# Altium integrated library Resistors$.IntLib: 248 symbols (part 2 of 3)
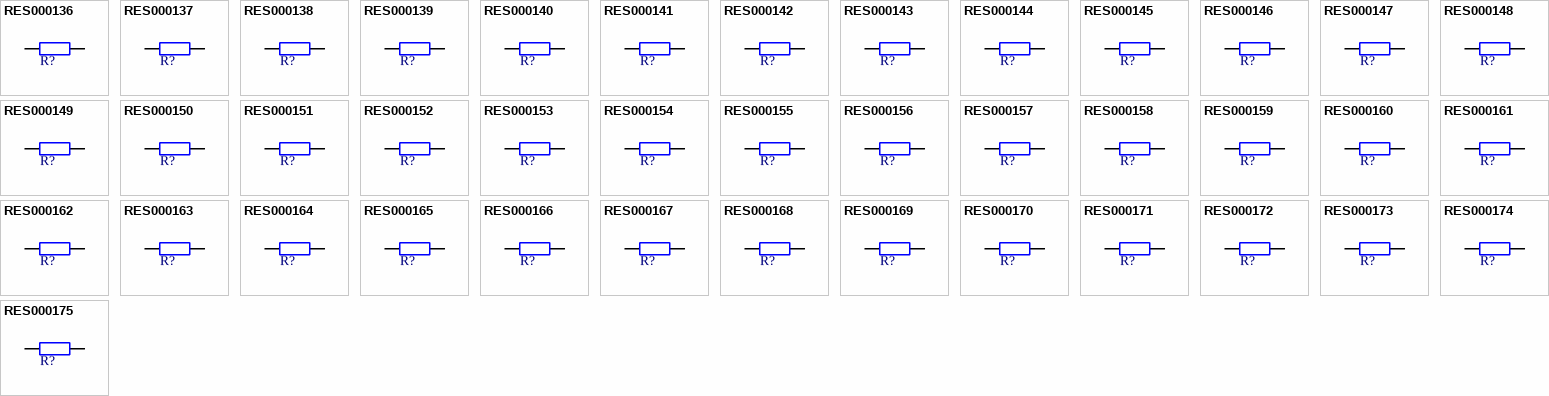
[diagram p7: symbols RES000136 to RES000175]

## RES000141
designator R?, comment 1K8  (value not drawn)
RES CER 1K8 1608 SM; Manufactuer: Yageo; Manufacturer-PN: RC0603FR-071K8L; UoA Stock#: RES000141; Assembly Method: Surface Mount; Voltage/Current: 1/10W; Item Type: Item; Path: ece/ts/Lists/Stock Inventory; Value: 1K8; Size/Package: 1608 (0603); Datasheet Link: http://share.engineering.auckland.ac.nz/ece/ts/Student%20Documents/Yageo-Resistors.pdf; Supplier1: Digikey; Supplier1-PN: 311-1.80KHRTR-ND; Component Type: RES-1608-1K8; Category: Resistor; Status: Active
footprint ECE-RESC1608-0603SM
pins: 1, 2

## RES000142
designator R?, comment 2K2  (value not drawn)
RES CER 2K2 1608 SM; Manufactuer: Yageo; Manufacturer-PN: RC0603FR-072K2L; UoA Stock#: RES000142; Assembly Method: Surface Mount; Voltage/Current: 1/10W; Item Type: Item; Path: ece/ts/Lists/Stock Inventory; Value: 2K2; Size/Package: 1608 (0603); Datasheet Link: http://share.engineering.auckland.ac.nz/ece/ts/Student%20Documents/Yageo-Resistors.pdf; Supplier1: Digikey; Supplier1-PN: 311-2.20KHRTR-ND; Component Type: RES-1608-2K2; Category: Resistor; Status: Active
footprint ECE-RESC1608-0603SM
pins: 1, 2

## RES000143
designator R?, comment 2K7  (value not drawn)
RES CER 2K7 1608 SM; Manufactuer: Yageo; Manufacturer-PN: RC0603FR-072K7L; UoA Stock#: RES000143; Assembly Method: Surface Mount; Voltage/Current: 1/10W; Item Type: Item; Path: ece/ts/Lists/Stock Inventory; Value: 2K7; Size/Package: 1608 (0603); Datasheet Link: http://share.engineering.auckland.ac.nz/ece/ts/Student%20Documents/Yageo-Resistors.pdf; Supplier1: Digikey; Supplier1-PN: 311-2.70KHRTR-ND; Component Type: RES-1608-2K7; Category: Resistor; Status: Active
footprint ECE-RESC1608-0603SM
pins: 1, 2

## RES000144
designator R?, comment 3K3  (value not drawn)
RES CER 3K3 1608 SM; Manufactuer: Rohm; Manufacturer-PN: MCR03ERTF3301; UoA Stock#: RES000144; Assembly Method: Surface Mount; Voltage/Current: 1/10W; Item Type: Item; Path: ece/ts/Lists/Stock Inventory; Value: 3K3; Size/Package: 1608 (0603); Datasheet Link: http://share.engineering.auckland.ac.nz/ece/ts/Student%20Documents/Rohm-resistors.pdf; Supplier1: Digikey; Supplier1-PN: RHM3.30KCFTR-ND; Component Type: RES-1608-3K3; Category: Resistor; Status: Active
footprint ECE-RESC1608-0603SM
pins: 1, 2

## RES000145
designator R?, comment 3K9  (value not drawn)
RES CER 3K9 1608 SM; Manufactuer: Panasonic; Manufacturer-PN: ERJ-3EKF3901V; UoA Stock#: RES000145; Assembly Method: Surface Mount; Voltage/Current: 1/10W; Item Type: Item; Path: ece/ts/Lists/Stock Inventory; Value: 3K9; Size/Package: 1608 (0603); Datasheet Link: http://share.engineering.auckland.ac.nz/ece/ts/Student%20Documents/Panasonic-Resistors.pdf; Supplier1: Digikey; Supplier1-PN: P3.90KHTR-ND; Component Type: RES-1608-3K9; Category: Resistor; Status: Active
footprint ECE-RESC1608-0603SM
pins: 1, 2

## RES000146
designator R?, comment 4K7  (value not drawn)
RES CER 4K7 1608 SM; Manufactuer: Yageo; Manufacturer-PN: RC0603FR-074K7L; UoA Stock#: RES000146; Assembly Method: Surface Mount; Voltage/Current: 1/10W; Item Type: Item; Path: ece/ts/Lists/Stock Inventory; Value: 4K7; Size/Package: 1608 (0603); Datasheet Link: http://share.engineering.auckland.ac.nz/ece/ts/Student%20Documents/Yageo-Resistors.pdf; Supplier1: Digikey; Supplier1-PN: 311-4.70KHRTR-ND; Component Type: RES-1608-4K7; Category: Resistor; Status: Active
footprint ECE-RESC1608-0603SM
pins: 1, 2

## RES000147
designator R?, comment 5K6  (value not drawn)
RES CER 5K6 1608 SM; Manufactuer: Yageo; Manufacturer-PN: RC0603FR-075K6L; UoA Stock#: RES000147; Assembly Method: Surface Mount; Voltage/Current: 1/10W; Item Type: Item; Path: ece/ts/Lists/Stock Inventory; Value: 5K6; Size/Package: 1608 (0603); Datasheet Link: http://share.engineering.auckland.ac.nz/ece/ts/Student%20Documents/Yageo-Resistors.pdf; Supplier1: Digikey; Supplier1-PN: 311-5.60KHRTR-ND; Component Type: RES-1608-5K6; Category: Resistor; Status: Active
footprint ECE-RESC1608-0603SM
pins: 1, 2

## RES000148
designator R?, comment 6K8  (value not drawn)
RES CER 6K8 1608 SM; Manufactuer: Rohm; Manufacturer-PN: MCR03ERTF6801; UoA Stock#: RES000148; Assembly Method: Surface Mount; Voltage/Current: 1/10W; Item Type: Item; Path: ece/ts/Lists/Stock Inventory; Value: 6K8; Size/Package: 1608 (0603); Datasheet Link: http://share.engineering.auckland.ac.nz/ece/ts/Student%20Documents/Rohm-resistors.pdf; Supplier1: Digikey; Supplier1-PN: RHM6.8KCFTR-ND; Component Type: RES-1608-6K8; Category: Resistor; Status: Active
footprint ECE-RESC1608-0603SM
pins: 1, 2

## RES000149
designator R?, comment 8K2  (value not drawn)
RES CER 8K2 1608 SM; Manufactuer: Panasonic; Manufacturer-PN: ERJ-3EKF8201V; UoA Stock#: RES000149; Assembly Method: Surface Mount; Voltage/Current: 1/10W; Item Type: Item; Path: ece/ts/Lists/Stock Inventory; Value: 8K2; Size/Package: 1608 (0603); Datasheet Link: http://share.engineering.auckland.ac.nz/ece/ts/Student%20Documents/Panasonic-Resistors.pdf; Supplier1: Digikey; Supplier1-PN: P8.20KHTR-ND; Component Type: RES-1608-8K2; Category: Resistor; Status: Active
footprint ECE-RESC1608-0603SM
pins: 1, 2

## RES000150
designator R?, comment 10K  (value not drawn)
RES CER 10K 1608 SM; Manufactuer: Rohm; Manufacturer-PN: MCR03ERTF1002; UoA Stock#: RES000150; Assembly Method: Surface Mount; Voltage/Current: 1/10W; Item Type: Item; Path: ece/ts/Lists/Stock Inventory; Value: 10K; Size/Package: 1608 (0603); Datasheet Link: http://share.engineering.auckland.ac.nz/ece/ts/Student%20Documents/Rohm-resistors.pdf; Supplier1: Digikey; Supplier1-PN: RHM10.0KCFTR-ND; Component Type: RES-1608-10K; Category: Resistor; Status: Active
footprint ECE-RESC1608-0603SM
pins: 1, 2

## RES000151
designator R?, comment 12K  (value not drawn)
RES CER 12K 1608 SM; Manufactuer: Rohm; Manufacturer-PN: MCR03ERTF1202; UoA Stock#: RES000151; Assembly Method: Surface Mount; Voltage/Current: 1/10W; Item Type: Item; Path: ece/ts/Lists/Stock Inventory; Value: 12K; Size/Package: 1608 (0603); Datasheet Link: http://share.engineering.auckland.ac.nz/ece/ts/Student%20Documents/Rohm-resistors.pdf; Supplier1: Digikey; Supplier1-PN: RHM12.0KCLTR-ND; Component Type: RES-1608-12K; Category: Resistor; Status: Active
footprint ECE-RESC1608-0603SM
pins: 1, 2

## RES000152
designator R?, comment 15K  (value not drawn)
RES CER 15K 1608 SM; Manufactuer: Yageo; Manufacturer-PN: RC0603FR-0715KL; UoA Stock#: RES000152; Assembly Method: Surface Mount; Voltage/Current: 1/10W; Item Type: Item; Path: ece/ts/Lists/Stock Inventory; Value: 15K; Size/Package: 1608 (0603); Datasheet Link: http://share.engineering.auckland.ac.nz/ece/ts/Student%20Documents/Yageo-Resistors.pdf; Supplier1: Digikey; Supplier1-PN: 311-15.0KHRTR-ND; Component Type: RES-1608-15K; Category: Resistor; Status: Active
footprint ECE-RESC1608-0603SM
pins: 1, 2

## RES000153
designator R?, comment 18K  (value not drawn)
RES CER 18K 1608 SM; Manufactuer: Yageo; Manufacturer-PN: RC0603FR-0718KL; UoA Stock#: RES000153; Assembly Method: Surface Mount; Voltage/Current: 1/10W; Item Type: Item; Path: ece/ts/Lists/Stock Inventory; Value: 18K; Size/Package: 1608 (0603); Datasheet Link: http://share.engineering.auckland.ac.nz/ece/ts/Student%20Documents/Yageo-Resistors.pdf; Supplier1: Digikey; Supplier1-PN: 311-18.0KHRTR-ND; Component Type: RES-1608-18K; Category: Resistor; Status: Active
footprint ECE-RESC1608-0603SM
pins: 1, 2

## RES000154
designator R?, comment 22K  (value not drawn)
RES CER 22K 1608 SM; Manufactuer: Yageo; Manufacturer-PN: RC0603FR-0722KL; UoA Stock#: RES000154; Assembly Method: Surface Mount; Voltage/Current: 1/10W; Item Type: Item; Path: ece/ts/Lists/Stock Inventory; Value: 22K; Size/Package: 1608 (0603); Datasheet Link: http://share.engineering.auckland.ac.nz/ece/ts/Student%20Documents/Yageo-Resistors.pdf; Supplier1: Digikey; Supplier1-PN: 311-22.0KHRTR-ND; Component Type: RES-1608-22K; Category: Resistor; Status: Active
footprint ECE-RESC1608-0603SM
pins: 1, 2

## RES000155
designator R?, comment 27K  (value not drawn)
RES CER 27K 1608 SM; Manufactuer: Samsung; Manufacturer-PN: RC1608F273CS; UoA Stock#: RES000155; Assembly Method: Surface Mount; Voltage/Current: 1/10W; Item Type: Item; Path: ece/ts/Lists/Stock Inventory; Value: 27K; Size/Package: 1608 (0603); Datasheet Link: http://share.engineering.auckland.ac.nz/ece/ts/Student%20Documents/Samsung-CHIP_RESISTOR_150112_1.pdf; Supplier1: Digikey; Supplier1-PN: 1276-4781-2-ND; Component Type: RES-1608-27K; Category: Resistor; Status: Active
footprint ECE-RESC1608-0603SM
pins: 1, 2

## RES000156
designator R?, comment 33K  (value not drawn)
RES CER 33K 1608 SM; Manufactuer: Yageo; Manufacturer-PN: RC0603FR-0733KL; UoA Stock#: RES000156; Assembly Method: Surface Mount; Voltage/Current: 1/10W; Item Type: Item; Path: ece/ts/Lists/Stock Inventory; Value: 33K; Size/Package: 1608 (0603); Datasheet Link: http://share.engineering.auckland.ac.nz/ece/ts/Student%20Documents/Yageo-Resistors.pdf; Supplier1: Digikey; Supplier1-PN: 311-33.0KHRTR-ND; Component Type: RES-1608-33K; Category: Resistor; Status: Active
footprint ECE-RESC1608-0603SM
pins: 1, 2

## RES000157
designator R?, comment 39K  (value not drawn)
RES CER 39K 1608 SM; Manufactuer: Yageo; Manufacturer-PN: RC0603FR-0739KL; UoA Stock#: RES000157; Assembly Method: Surface Mount; Voltage/Current: 1/10W; Item Type: Item; Path: ece/ts/Lists/Stock Inventory; Value: 39K; Size/Package: 1608 (0603); Datasheet Link: http://share.engineering.auckland.ac.nz/ece/ts/Student%20Documents/Yageo-Resistors.pdf; Supplier1: Digikey; Supplier1-PN: 311-39.0KHRTR-ND; Component Type: RES-1608-39K; Category: Resistor; Status: Active
footprint ECE-RESC1608-0603SM
pins: 1, 2

## RES000158
designator R?, comment 47K  (value not drawn)
RES CER 47K 1608 SM; Manufactuer: Yageo; Manufacturer-PN: RC0603FR-0747KL; UoA Stock#: RES000158; Assembly Method: Surface Mount; Voltage/Current: 1/10W; Item Type: Item; Path: ece/ts/Lists/Stock Inventory; Value: 47K; Size/Package: 1608 (0603); Datasheet Link: http://share.engineering.auckland.ac.nz/ece/ts/Student%20Documents/Yageo-Resistors.pdf; Supplier1: Digikey; Supplier1-PN: 311-47.0KHRTR-ND; Component Type: RES-1608-47K; Category: Resistor; Status: Active
footprint ECE-RESC1608-0603SM
pins: 1, 2

## RES000159
designator R?, comment 56K  (value not drawn)
RES CER 56K 1608 SM; Manufactuer: Panasonic; Manufacturer-PN: ERJ-3EKF5602V; UoA Stock#: RES000159; Assembly Method: Surface Mount; Voltage/Current: 1/10W; Item Type: Item; Path: ece/ts/Lists/Stock Inventory; Value: 56K; Size/Package: 1608 (0603); Datasheet Link: http://share.engineering.auckland.ac.nz/ece/ts/Student%20Documents/Panasonic-Resistors.pdf; Supplier1: Digikey; Supplier1-PN: P56.0KHTR-ND; Component Type: RES-1608-56K; Category: Resistor; Status: Active
footprint ECE-RESC1608-0603SM
pins: 1, 2

## RES000160
designator R?, comment 68K  (value not drawn)
RES CER 68K 1608 SM; Manufactuer: Yageo; Manufacturer-PN: RC0603FR-0768KL; UoA Stock#: RES000160; Assembly Method: Surface Mount; Voltage/Current: 1/10W; Item Type: Item; Path: ece/ts/Lists/Stock Inventory; Value: 68K; Size/Package: 1608 (0603); Datasheet Link: http://share.engineering.auckland.ac.nz/ece/ts/Student%20Documents/Yageo-Resistors.pdf; Supplier1: Digikey; Supplier1-PN: 311-68.0KHRTR-ND; Component Type: RES-1608-68K; Category: Resistor; Status: Active
footprint ECE-RESC1608-0603SM
pins: 1, 2

## RES000161
designator R?, comment 82K  (value not drawn)
RES CER 82K 1608 SM; Manufactuer: Rohm; Manufacturer-PN: MCR03ERTF8202; UoA Stock#: RES000161; Assembly Method: Surface Mount; Voltage/Current: 1/10W; Item Type: Item; Path: ece/ts/Lists/Stock Inventory; Value: 82K; Size/Package: 1608 (0603); Datasheet Link: http://share.engineering.auckland.ac.nz/ece/ts/Student%20Documents/Rohm-resistors.pdf; Supplier1: Digikey; Supplier1-PN: RHM82KCFTR-ND; Component Type: RES-1608-82K; Category: Resistor; Status: Active
footprint ECE-RESC1608-0603SM
pins: 1, 2

## RES000162
designator R?, comment 100K  (value not drawn)
RES CER 100K 1608 SM; Manufactuer: Yageo; Manufacturer-PN: RC0603FR-07100KL; UoA Stock#: RES000162; Assembly Method: Surface Mount; Voltage/Current: 1/10W; Item Type: Item; Path: ece/ts/Lists/Stock Inventory; Value: 100K; Size/Package: 1608 (0603); Datasheet Link: http://share.engineering.auckland.ac.nz/ece/ts/Student%20Documents/Yageo-Resistors.pdf; Supplier1: Digikey; Supplier1-PN: 311-100KHRTR-ND; Component Type: RES-1608-100K; Category: Resistor; Status: Active
footprint ECE-RESC1608-0603SM
pins: 1, 2

## RES000163
designator R?, comment 120K  (value not drawn)
RES CER 120K 1608 SM; Manufactuer: Yageo; Manufacturer-PN: RC0603FR-07120KL; UoA Stock#: RES000163; Assembly Method: Surface Mount; Voltage/Current: 1/10W; Item Type: Item; Path: ece/ts/Lists/Stock Inventory; Value: 120K; Size/Package: 1608 (0603); Datasheet Link: http://share.engineering.auckland.ac.nz/ece/ts/Student%20Documents/Yageo-Resistors.pdf; Supplier1: Digikey; Supplier1-PN: 311-120KHRTR-ND; Component Type: RES-1608-120K; Category: Resistor; Status: Active
footprint ECE-RESC1608-0603SM
pins: 1, 2

## RES000164
designator R?, comment 150K  (value not drawn)
RES CER 150K 1608 SM; Manufactuer: Yageo; Manufacturer-PN: RC0603FR-07150KL; UoA Stock#: RES000164; Assembly Method: Surface Mount; Voltage/Current: 1/10W; Item Type: Item; Path: ece/ts/Lists/Stock Inventory; Value: 150K; Size/Package: 1608 (0603); Datasheet Link: http://share.engineering.auckland.ac.nz/ece/ts/Student%20Documents/Yageo-Resistors.pdf; Supplier1: Digikey; Supplier1-PN: 311-150KHRTR-ND; Component Type: RES-1608-150K; Category: Resistor; Status: Active
footprint ECE-RESC1608-0603SM
pins: 1, 2

## RES000165
designator R?, comment 180K  (value not drawn)
RES CER 180K 1608 SM; Manufactuer: Yageo; Manufacturer-PN: RC0603FR-07180KL; UoA Stock#: RES000165; Assembly Method: Surface Mount; Voltage/Current: 1/10W; Item Type: Item; Path: ece/ts/Lists/Stock Inventory; Value: 180K; Size/Package: 1608 (0603); Datasheet Link: http://share.engineering.auckland.ac.nz/ece/ts/Student%20Documents/Yageo-Resistors.pdf; Supplier1: Digikey; Supplier1-PN: 311-180KHRTR-ND; Component Type: RES-1608-180K; Category: Resistor; Status: Active
footprint ECE-RESC1608-0603SM
pins: 1, 2

## RES000166
designator R?, comment 220K  (value not drawn)
RES CER 220K 1608 SM; Manufactuer: Yageo; Manufacturer-PN: RC0603FR-07220KL; UoA Stock#: RES000166; Assembly Method: Surface Mount; Voltage/Current: 1/10W; Item Type: Item; Path: ece/ts/Lists/Stock Inventory; Value: 220K; Size/Package: 1608 (0603); Datasheet Link: http://share.engineering.auckland.ac.nz/ece/ts/Student%20Documents/Yageo-Resistors.pdf; Supplier1: Digikey; Supplier1-PN: 311-220KHRTR-ND; Component Type: RES-1608-220K; Category: Resistor; Status: Active
footprint ECE-RESC1608-0603SM
pins: 1, 2

## RES000167
designator R?, comment 270K  (value not drawn)
RES CER 270K 1608 SM; Manufactuer: Yageo; Manufacturer-PN: RC0603FR-07270KL; UoA Stock#: RES000167; Assembly Method: Surface Mount; Voltage/Current: 1/10W; Item Type: Item; Path: ece/ts/Lists/Stock Inventory; Value: 270K; Size/Package: 1608 (0603); Datasheet Link: http://share.engineering.auckland.ac.nz/ece/ts/Student%20Documents/Yageo-Resistors.pdf; Supplier1: Digikey; Supplier1-PN: 311-270KHRTR-ND; Component Type: RES-1608-270K; Category: Resistor; Status: Active
footprint ECE-RESC1608-0603SM
pins: 1, 2

## RES000168
designator R?, comment 330K  (value not drawn)
RES CER 330K 1608 SM; Manufactuer: Yageo; Manufacturer-PN: RC0603FR-07330KL; UoA Stock#: RES000168; Assembly Method: Surface Mount; Voltage/Current: 1/10W; Item Type: Item; Path: ece/ts/Lists/Stock Inventory; Value: 330K; Size/Package: 1608 (0603); Datasheet Link: http://share.engineering.auckland.ac.nz/ece/ts/Student%20Documents/Yageo-Resistors.pdf; Supplier1: Digikey; Supplier1-PN: 311-330KHRTR-ND; Component Type: RES-1608-330K; Category: Resistor; Status: Active
footprint ECE-RESC1608-0603SM
pins: 1, 2

## RES000169
designator R?, comment 390K  (value not drawn)
RES CER 390K 1608 SM; Manufactuer: Yageo; Manufacturer-PN: RC0603FR-07390KL; UoA Stock#: RES000169; Assembly Method: Surface Mount; Voltage/Current: 1/10W; Item Type: Item; Path: ece/ts/Lists/Stock Inventory; Value: 390K; Size/Package: 1608 (0603); Datasheet Link: http://share.engineering.auckland.ac.nz/ece/ts/Student%20Documents/Yageo-Resistors.pdf; Supplier1: Digikey; Supplier1-PN: 311-390KHRTR-ND; Component Type: RES-1608-390K; Category: Resistor; Status: Active
footprint ECE-RESC1608-0603SM
pins: 1, 2

## RES000170
designator R?, comment 470K  (value not drawn)
RES CER 470K 1608 SM; Manufactuer: Yageo; Manufacturer-PN: RC0603FR-07470KL; UoA Stock#: RES000170; Assembly Method: Surface Mount; Voltage/Current: 1/10W; Item Type: Item; Path: ece/ts/Lists/Stock Inventory; Value: 470K; Size/Package: 1608 (0603); Datasheet Link: http://share.engineering.auckland.ac.nz/ece/ts/Student%20Documents/Yageo-Resistors.pdf; Supplier1: Digikey; Supplier1-PN: 311-470KHRTR-ND; Component Type: RES-1608-470K; Category: Resistor; Status: Active
footprint ECE-RESC1608-0603SM
pins: 1, 2

## RES000171
designator R?, comment 560K  (value not drawn)
RES CER 560K 1608 SM; Manufactuer: Rohm; Manufacturer-PN: MCR03ERTF5603; UoA Stock#: RES000171; Assembly Method: Surface Mount; Voltage/Current: 1/10W; Item Type: Item; Path: ece/ts/Lists/Stock Inventory; Value: 560K; Size/Package: 1608 (0603); Datasheet Link: http://share.engineering.auckland.ac.nz/ece/ts/Student%20Documents/Rohm-resistors.pdf; Supplier1: Digikey; Supplier1-PN: RHM560KCLTR-ND; Component Type: RES-1608-560K; Category: Resistor; Status: Active
footprint ECE-RESC1608-0603SM
pins: 1, 2

## RES000172
designator R?, comment 680K  (value not drawn)
RES CER 680K 1608 SM; Manufactuer: Panasonic; Manufacturer-PN: ERJ-3EKF6803V; UoA Stock#: RES000172; Assembly Method: Surface Mount; Voltage/Current: 1/10W; Item Type: Item; Path: ece/ts/Lists/Stock Inventory; Value: 680K; Size/Package: 1608 (0603); Datasheet Link: http://share.engineering.auckland.ac.nz/ece/ts/Student%20Documents/Panasonic-Resistors.pdf; Supplier1: Digikey; Supplier1-PN: P680KHTR-ND; Component Type: RES-1608-680K; Category: Resistor; Status: Active
footprint ECE-RESC1608-0603SM
pins: 1, 2

## RES000173
designator R?, comment 820K  (value not drawn)
RES CER 820K 1608 SM; Manufactuer: Yageo; Manufacturer-PN: RC0603FR-07820KL; UoA Stock#: RES000173; Assembly Method: Surface Mount; Voltage/Current: 1/10W; Item Type: Item; Path: ece/ts/Lists/Stock Inventory; Value: 820K; Size/Package: 1608 (0603); Datasheet Link: http://share.engineering.auckland.ac.nz/ece/ts/Student%20Documents/Yageo-Resistors.pdf; Supplier1: Digikey; Supplier1-PN: 311-820KHRTR-ND; Component Type: RES-1608-820K; Category: Resistor; Status: Active
footprint ECE-RESC1608-0603SM
pins: 1, 2

## RES000174
designator R?, comment 1M  (value not drawn)
RES CER 1M 1608 SM; Manufactuer: Yageo; Manufacturer-PN: RC0603FR-071ML; UoA Stock#: RES000174; Assembly Method: Surface Mount; Voltage/Current: 1/10W; Item Type: Item; Path: ece/ts/Lists/Stock Inventory; Value: 1M; Size/Package: 1608 (0603); Datasheet Link: http://share.engineering.auckland.ac.nz/ece/ts/Student%20Documents/Yageo-Resistors.pdf; Supplier1: Digikey; Supplier1-PN: 311-1.00MHRTR-ND; Component Type: RES-1608-1M; Category: Resistor; Status: Active
footprint ECE-RESC1608-0603SM
pins: 1, 2

## RES000175
designator R?, comment 2M2  (value not drawn)
RES CER 2M2 1608 SM; Manufactuer: Panasonic; Manufacturer-PN: ERJ-3EKF2204V; UoA Stock#: RES000175; Assembly Method: Surface Mount; Voltage/Current: 1/10W; Item Type: Item; Path: ece/ts/Lists/Stock Inventory; Value: 2M2; Size/Package: 1608 (0603); Datasheet Link: http://share.engineering.auckland.ac.nz/ece/ts/Student%20Documents/Panasonic-Resistors.pdf; Supplier1: Digikey; Supplier1-PN: P2.20MHTR-ND; Component Type: RES-1608-2M2; Category: Resistor; Status: Active
footprint ECE-RESC1608-0603SM
pins: 1, 2

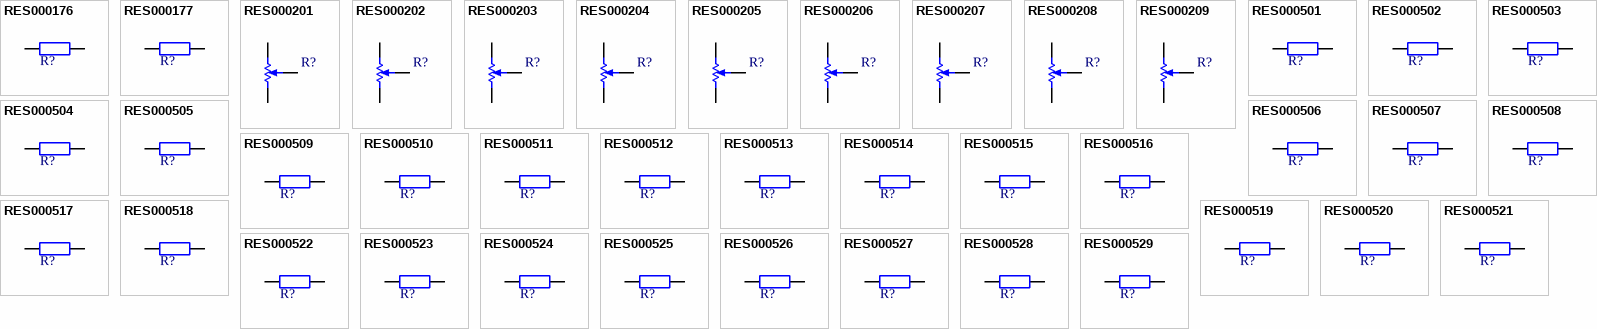
[diagram p4: symbols RES000176 to RES000529]

## RES000176
designator R?, comment 4M7  (value not drawn)
RES CER 4M7 1608 SM; Manufactuer: Yageo; Manufacturer-PN: RC0603FR-074M7L; UoA Stock#: RES000176; Assembly Method: Surface Mount; Voltage/Current: 1/10W; Item Type: Item; Path: ece/ts/Lists/Stock Inventory; Value: 4M7; Size/Package: 1608 (0603); Datasheet Link: http://share.engineering.auckland.ac.nz/ece/ts/Student%20Documents/Yageo-Resistors.pdf; Supplier1: Digikey; Supplier1-PN: 311-4.70MHRTR-ND; Component Type: RES-1608-4M7; Category: Resistor; Status: Active
footprint ECE-RESC1608-0603SM
pins: 1, 2

## RES000177
designator R?, comment 10M  (value not drawn)
RES CER 10M 1608 SM; UoA Stock#: RES000177; Assembly Method: Surface Mount; Voltage/Current: 1/10W; Item Type: Item; Path: ece/ts/Lists/Stock Inventory; Value: 10M; Size/Package: 1608 (0603); Component Type: RES-1608-10M; Category: Resistor; Status: Active
footprint ECE-RESC1608-0603SM
pins: 1, 2

## RES000201
designator R?, comment 100R  (value not drawn)
RES TRIM 100R MULTITURN TH; Manufactuer: Suntan; UoA Stock#: RES000201; Assembly Method: Through hole; Voltage/Current: 0.5W; Item Type: Item; Path: ece/ts/Lists/Stock Inventory; Value: 100R; Size/Package: 9.5X4.8X10.3; Component Type: NA; Category: Resistor; Status: Active
footprint ECE-RES-VR0.1/1TH
pins: 1, 2, W

## RES000202
designator R?, comment 1K  (value not drawn)
RES TRIM 1K MULTITURN TH; Manufactuer: Suntan; UoA Stock#: RES000202; Assembly Method: Through hole; Voltage/Current: 0.5W; Item Type: Item; Path: ece/ts/Lists/Stock Inventory; Value: 1K; Size/Package: 9.5X4.8X10.3; Component Type: NA; Category: Resistor; Status: Active
footprint ECE-RES-VR0.1/1TH
pins: 1, 2, W

## RES000203
designator R?, comment 10K  (value not drawn)
RES TRIM 10K MULTITURN TH; Manufactuer: Suntan; UoA Stock#: RES000203; Assembly Method: Through hole; Voltage/Current: 0.5W; Item Type: Item; Path: ece/ts/Lists/Stock Inventory; Value: 10K; Size/Package: 9.5X4.8X10.3; Component Type: NA; Category: Resistor; Status: Active
footprint ECE-RES-VR0.1/1TH
pins: 1, 2, W

## RES000204
designator R?, comment 50K  (value not drawn)
RES TRIM 50K MULTITURN TH; Manufactuer: Suntan; UoA Stock#: RES000204; Assembly Method: Through hole; Voltage/Current: 0.5W; Item Type: Item; Path: ece/ts/Lists/Stock Inventory; Value: 50K; Size/Package: 9.5X4.8X10.3; Component Type: NA; Category: Resistor; Status: Active
footprint ECE-RES-VR0.1/1TH
pins: 1, 2, W

## RES000205
designator R?, comment 100K  (value not drawn)
RES TRIM 100K MULTITURN TH; Manufactuer: Suntan; UoA Stock#: RES000205; Assembly Method: Through hole; Voltage/Current: 0.5W; Item Type: Item; Path: ece/ts/Lists/Stock Inventory; Value: 100K; Size/Package: 9.5X4.8X10.3; Component Type: NA; Category: Resistor; Status: Active
footprint ECE-RES-VR0.1/1TH
pins: 1, 2, W

## RES000206
designator R?, comment 1K  (value not drawn)
RES TRIM 1K SINGLETURN TH; Manufactuer: Piher; Manufacturer-PN: PT6KV-102A2020; UoA Stock#: RES000206; Assembly Method: Through hole; Voltage/Current: 0.1W; Item Type: Item; Path: ece/ts/Lists/Stock Inventory; Value: 1K; Size/Package: 6.3 Dia; Datasheet Link: http://share.engineering.auckland.ac.nz/ece/ts/Student%20Documents/PT6v03-4455.pdf; Supplier1: Active components; Supplier1-PN: T824407; Component Type: NA; Category: Resistor; Status: Active
footprint ECE-RES-VR0.2/1TH
pins: CCW, CW, W

## RES000207
designator R?, comment 10K  (value not drawn)
RES TRIM 10K SINGLETURN TH; Manufactuer: Piher; Manufacturer-PN: PT10LV10-103A2020; UoA Stock#: RES000207; Assembly Method: Through hole; Voltage/Current: 0.1W; Item Type: Item; Path: ece/ts/Lists/Stock Inventory; Value: 10K; Size/Package: 10.3 Dia; Datasheet Link: http://share.engineering.auckland.ac.nz/ece/ts/Student%20Documents/PT10v03-6148.pdf; Supplier1: Active components; Supplier1-PN: T822783; Component Type: NA; Category: Resistor; Status: Active
footprint ECE-RES-VR0.2/1TH
pins: CCW, CW, W

## RES000208
designator R?, comment 50K  (value not drawn)
RES TRIM 50K SINGLETURN TH; Manufactuer: Piher; Manufacturer-PN: PT10LV10-503A2020; UoA Stock#: RES000208; Assembly Method: Through hole; Voltage/Current: 0.1W; Item Type: Item; Path: ece/ts/Lists/Stock Inventory; Value: 50K; Size/Package: 10.3 Dia; Datasheet Link: http://share.engineering.auckland.ac.nz/ece/ts/Student%20Documents/PT10v03-6148.pdf; Supplier1: Active components; Component Type: NA; Category: Resistor; Status: Active
footprint ECE-RES-VR0.2/1TH
pins: CCW, CW, W

## RES000209
designator R?, comment 100K  (value not drawn)
RES TRIM 100K SINGLETURN TH; Manufactuer: Piher; Manufacturer-PN: PT10LV10-104A2020; UoA Stock#: RES000209; Assembly Method: Through hole; Voltage/Current: 0.1W; Item Type: Item; Path: ece/ts/Lists/Stock Inventory; Value: 100K; Size/Package: 10.3 Dia; Datasheet Link: http://share.engineering.auckland.ac.nz/ece/ts/Student%20Documents/PT10v03-6148.pdf; Supplier1: Active components; Component Type: NA; Category: Resistor; Status: Active
footprint ECE-RES-VR0.2/1TH
pins: CCW, CW, W

## RES000501
designator R?, comment 0R  (value not drawn)
RES CER 0R 2012 SM; UoA Stock#: RES000501; Assembly Method: Surface Mount; Voltage/Current: 1/8W; Item Type: Item; Path: ece/ts/Lists/Stock Inventory; Value: 0R; Size/Package: 2012; Component Type: RES-2012-0R; Category: Resistor; Status: Active
footprint ECE-RESC2012-0805SM
pins: 1, 2

## RES000502
designator R?, comment 1R  (value not drawn)
RES CER 1R 2012 SM; Manufactuer: Panasonic Electronic Components; Manufacturer-PN: ERJ-6ENF41R2V; UoA Stock#: RES000502; Assembly Method: Surface Mount; Voltage/Current: 1/8W; Item Type: Item; Path: ece/ts/Lists/Stock Inventory; Value: 1R; Size/Package: 2012 (0805); Datasheet Link: http://share.engineering.auckland.ac.nz/ece/ts/Student%20Documents/Panasonic-Resistors.pdf; Supplier1: Digikey; Supplier1-PN: P41.2CTR-ND; Component Type: RES-2012-1R; Category: Resistor; Status: Active
footprint ECE-RESC2012-0805SM
pins: 1, 2

## RES000503
designator R?, comment 1.2R  (value not drawn)
RES CER 1.2R 2012 SM; UoA Stock#: RES000503; Assembly Method: Surface Mount; Voltage/Current: 1/8W; Item Type: Item; Path: ece/ts/Lists/Stock Inventory; Value: 1.2R; Size/Package: 2012 (0805); Component Type: RES-2012-1R2; Category: Resistor; Status: Active
footprint ECE-RESC2012-0805SM
pins: 1, 2

## RES000504
designator R?, comment 1.5R  (value not drawn)
RES CER 1.5R 2012 SM; UoA Stock#: RES000504; Assembly Method: Surface Mount; Voltage/Current: 1/8W; Item Type: Item; Path: ece/ts/Lists/Stock Inventory; Value: 1.5R; Size/Package: 2012 (0805); Component Type: RES-2012-1R5; Category: Resistor; Status: Active
footprint ECE-RESC2012-0805SM
pins: 1, 2

## RES000505
designator R?, comment 1.8R  (value not drawn)
RES CER 1.8R 2012 SM; UoA Stock#: RES000505; Assembly Method: Surface Mount; Voltage/Current: 1/8W; Item Type: Item; Path: ece/ts/Lists/Stock Inventory; Value: 1.8R; Size/Package: 2012 (0805); Component Type: RES-2012-1R8; Category: Resistor; Status: Active
footprint ECE-RESC2012-0805SM
pins: 1, 2

## RES000506
designator R?, comment 2.2R  (value not drawn)
RES CER 2.2R 2012 SM; UoA Stock#: RES000506; Assembly Method: Surface Mount; Voltage/Current: 1/8W; Item Type: Item; Path: ece/ts/Lists/Stock Inventory; Value: 2.2R; Size/Package: 2012 (0805); Component Type: RES-2012-2R2; Category: Resistor; Status: Active
footprint ECE-RESC2012-0805SM
pins: 1, 2

## RES000507
designator R?, comment 2.7R  (value not drawn)
RES CER 2.7R 2012 SM; UoA Stock#: RES000507; Assembly Method: Surface Mount; Voltage/Current: 1/8W; Item Type: Item; Path: ece/ts/Lists/Stock Inventory; Value: 2.7R; Size/Package: 2012 (0805); Component Type: RES-2012-2R7; Category: Resistor; Status: Active
footprint ECE-RESC2012-0805SM
pins: 1, 2

## RES000508
designator R?, comment 3.3R  (value not drawn)
RES CER 3.3R 2012 SM; UoA Stock#: RES000508; Assembly Method: Surface Mount; Voltage/Current: 1/8W; Item Type: Item; Path: ece/ts/Lists/Stock Inventory; Value: 3.3R; Size/Package: 2012 (0805); Component Type: RES-2012-3R3; Category: Resistor; Status: Active
footprint ECE-RESC2012-0805SM
pins: 1, 2

## RES000509
designator R?, comment 3.9R  (value not drawn)
RES CER 3.9R 2012 SM; UoA Stock#: RES000509; Assembly Method: Surface Mount; Voltage/Current: 1/8W; Item Type: Item; Path: ece/ts/Lists/Stock Inventory; Value: 3.9R; Size/Package: 2012 (0805); Component Type: RES-2012-3R9; Category: Resistor; Status: Active
footprint ECE-RESC2012-0805SM
pins: 1, 2

## RES000510
designator R?, comment 4.7R  (value not drawn)
RES CER 4.7R 2012 SM; UoA Stock#: RES000510; Assembly Method: Surface Mount; Voltage/Current: 1/8W; Item Type: Item; Path: ece/ts/Lists/Stock Inventory; Value: 4.7R; Size/Package: 2012 (0805); Component Type: RES-2012-4R7; Category: Resistor; Status: Active
footprint ECE-RESC2012-0805SM
pins: 1, 2

## RES000511
designator R?, comment 5.6R  (value not drawn)
RES CER 5.6R 2012 SM; UoA Stock#: RES000511; Assembly Method: Surface Mount; Voltage/Current: 1/8W; Item Type: Item; Path: ece/ts/Lists/Stock Inventory; Value: 5.6R; Size/Package: 2012 (0805); Component Type: RES-2012-5R6; Category: Resistor; Status: Active
footprint ECE-RESC2012-0805SM
pins: 1, 2

## RES000512
designator R?, comment 6.8R  (value not drawn)
RES CER 6.8R 2012 SM; UoA Stock#: RES000512; Assembly Method: Surface Mount; Voltage/Current: 1/8W; Item Type: Item; Path: ece/ts/Lists/Stock Inventory; Value: 6.8R; Size/Package: 2012 (0805); Component Type: RES-2012-6R8; Category: Resistor; Status: Active
footprint ECE-RESC2012-0805SM
pins: 1, 2

## RES000513
designator R?, comment 8.2R  (value not drawn)
RES CER 8.2R 2012 SM; UoA Stock#: RES000513; Assembly Method: Surface Mount; Voltage/Current: 1/8W; Item Type: Item; Path: ece/ts/Lists/Stock Inventory; Value: 8.2R; Size/Package: 2012 (0805); Component Type: RES-2012-8R2; Category: Resistor; Status: Active
footprint ECE-RESC2012-0805SM
pins: 1, 2

## RES000514
designator R?, comment 10R  (value not drawn)
RES CER 10R 2012 SM; UoA Stock#: RES000514; Assembly Method: Surface Mount; Voltage/Current: 1/8W; Item Type: Item; Path: ece/ts/Lists/Stock Inventory; Value: 10R; Size/Package: 2012 (0805); Component Type: RES-2012-10R; Category: Resistor; Status: Active
footprint ECE-RESC2012-0805SM
pins: 1, 2

## RES000515
designator R?, comment 12R  (value not drawn)
RES CER 12R 2012 SM; UoA Stock#: RES000515; Assembly Method: Surface Mount; Voltage/Current: 1/8W; Item Type: Item; Path: ece/ts/Lists/Stock Inventory; Value: 12R; Size/Package: 2012 (0805); Component Type: RES-2012-12R; Category: Resistor; Status: Active
footprint ECE-RESC2012-0805SM
pins: 1, 2

## RES000516
designator R?, comment 15R  (value not drawn)
RES CER 15R 2012 SM; UoA Stock#: RES000516; Assembly Method: Surface Mount; Voltage/Current: 1/8W; Item Type: Item; Path: ece/ts/Lists/Stock Inventory; Value: 15R; Size/Package: 2012 (0805); Component Type: RES-2012-15R; Category: Resistor; Status: Active
footprint ECE-RESC2012-0805SM
pins: 1, 2

## RES000517
designator R?, comment 18R  (value not drawn)
RES CER 18R 2012 SM; UoA Stock#: RES000517; Assembly Method: Surface Mount; Voltage/Current: 1/8W; Item Type: Item; Path: ece/ts/Lists/Stock Inventory; Value: 18R; Size/Package: 2012 (0805); Component Type: RES-2012-18R; Category: Resistor; Status: Active
footprint ECE-RESC2012-0805SM
pins: 1, 2

## RES000518
designator R?, comment 22R  (value not drawn)
RES CER 22R 2012 SM; UoA Stock#: RES000518; Assembly Method: Surface Mount; Voltage/Current: 1/8W; Item Type: Item; Path: ece/ts/Lists/Stock Inventory; Value: 22R; Size/Package: 2012 (0805); Component Type: RES-2012-22R; Category: Resistor; Status: Active
footprint ECE-RESC2012-0805SM
pins: 1, 2

## RES000519
designator R?, comment 27R  (value not drawn)
RES CER 27R 2012 SM; UoA Stock#: RES000519; Assembly Method: Surface Mount; Voltage/Current: 1/8W; Item Type: Item; Path: ece/ts/Lists/Stock Inventory; Value: 27R; Size/Package: 2012 (0805); Component Type: RES-2012-27R; Category: Resistor; Status: Active
footprint ECE-RESC2012-0805SM
pins: 1, 2

## RES000520
designator R?, comment 33R  (value not drawn)
RES CER 33R 2012 SM; UoA Stock#: RES000520; Assembly Method: Surface Mount; Voltage/Current: 1/8W; Item Type: Item; Path: ece/ts/Lists/Stock Inventory; Value: 33R; Size/Package: 2012 (0805); Component Type: RES-2012-33R; Category: Resistor; Status: Active
footprint ECE-RESC2012-0805SM
pins: 1, 2

## RES000521
designator R?, comment 39R  (value not drawn)
RES CER 39R 2012 SM; UoA Stock#: RES000521; Assembly Method: Surface Mount; Voltage/Current: 1/8W; Item Type: Item; Path: ece/ts/Lists/Stock Inventory; Value: 39R; Size/Package: 2012 (0805); Component Type: RES-2012-39R; Category: Resistor; Status: Active
footprint ECE-RESC2012-0805SM
pins: 1, 2

## RES000522
designator R?, comment 47R  (value not drawn)
RES CER 47R 2012 SM; UoA Stock#: RES000522; Assembly Method: Surface Mount; Voltage/Current: 1/8W; Item Type: Item; Path: ece/ts/Lists/Stock Inventory; Value: 47R; Size/Package: 2012 (0805); Component Type: RES-2012-47R; Category: Resistor; Status: Active
footprint ECE-RESC2012-0805SM
pins: 1, 2

## RES000523
designator R?, comment 56R  (value not drawn)
RES CER 56R 2012 SM; UoA Stock#: RES000523; Assembly Method: Surface Mount; Voltage/Current: 1/8W; Item Type: Item; Path: ece/ts/Lists/Stock Inventory; Value: 56R; Size/Package: 2012 (0805); Component Type: RES-2012-56R; Category: Resistor; Status: Active
footprint ECE-RESC2012-0805SM
pins: 1, 2

## RES000524
designator R?, comment 68R  (value not drawn)
RES CER 68R 2012 SM; UoA Stock#: RES000524; Assembly Method: Surface Mount; Voltage/Current: 1/8W; Item Type: Item; Path: ece/ts/Lists/Stock Inventory; Value: 68R; Size/Package: 2012 (0805); Component Type: RES-2012-68R; Category: Resistor; Status: Active
footprint ECE-RESC2012-0805SM
pins: 1, 2

## RES000525
designator R?, comment 82R  (value not drawn)
RES CER 82R 2012 SM; UoA Stock#: RES000525; Assembly Method: Surface Mount; Voltage/Current: 1/8W; Item Type: Item; Path: ece/ts/Lists/Stock Inventory; Value: 82R; Size/Package: 2012 (0805); Component Type: RES-2012-82R; Category: Resistor; Status: Active
footprint ECE-RESC2012-0805SM
pins: 1, 2

## RES000526
designator R?, comment 100R  (value not drawn)
RES CER 100R 2012 SM; UoA Stock#: RES000526; Assembly Method: Surface Mount; Voltage/Current: 1/8W; Item Type: Item; Path: ece/ts/Lists/Stock Inventory; Value: 100R; Size/Package: 2012 (0805); Component Type: RES-2012-100R; Category: Resistor; Status: Active
footprint ECE-RESC2012-0805SM
pins: 1, 2

## RES000527
designator R?, comment 120R  (value not drawn)
RES CER 120R 2012 SM; UoA Stock#: RES000527; Assembly Method: Surface Mount; Voltage/Current: 1/8W; Item Type: Item; Path: ece/ts/Lists/Stock Inventory; Value: 120R; Size/Package: 2012 (0805); Component Type: RES-2012-120R; Category: Resistor; Status: Active
footprint ECE-RESC2012-0805SM
pins: 1, 2

## RES000528
designator R?, comment 150R  (value not drawn)
RES CER 150R 2012 SM; UoA Stock#: RES000528; Assembly Method: Surface Mount; Voltage/Current: 1/8W; Item Type: Item; Path: ece/ts/Lists/Stock Inventory; Value: 150R; Size/Package: 2012 (0805); Component Type: RES-2012-150R; Category: Resistor; Status: Active
footprint ECE-RESC2012-0805SM
pins: 1, 2

## RES000529
designator R?, comment 180R  (value not drawn)
RES CER 180R 2012 SM; UoA Stock#: RES000529; Assembly Method: Surface Mount; Voltage/Current: 1/8W; Item Type: Item; Path: ece/ts/Lists/Stock Inventory; Value: 180R; Size/Package: 2012 (0805); Component Type: RES-2012-180R; Category: Resistor; Status: Active
footprint ECE-RESC2012-0805SM
pins: 1, 2

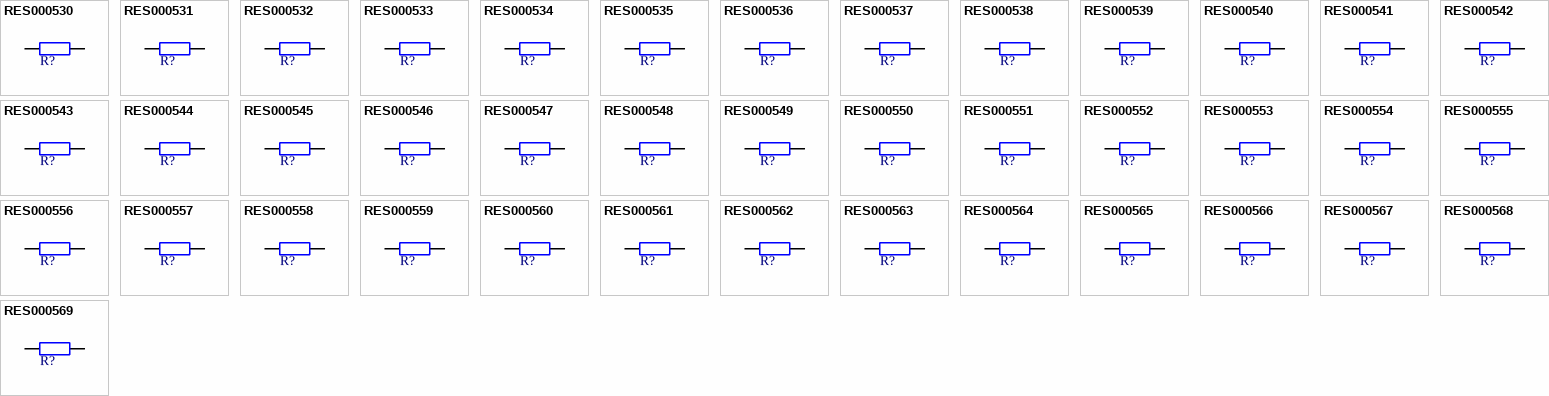
[diagram p5: symbols RES000530 to RES000569]

## RES000530
designator R?, comment 220R  (value not drawn)
RES CER 220R 2012 SM; UoA Stock#: RES000530; Assembly Method: Surface Mount; Voltage/Current: 1/8W; Item Type: Item; Path: ece/ts/Lists/Stock Inventory; Value: 220R; Size/Package: 2012 (0805); Component Type: RES-2012-220R; Category: Resistor; Status: Active
footprint ECE-RESC2012-0805SM
pins: 1, 2

## RES000531
designator R?, comment 270R  (value not drawn)
RES CER 270R 2012 SM; UoA Stock#: RES000531; Assembly Method: Surface Mount; Voltage/Current: 1/8W; Item Type: Item; Path: ece/ts/Lists/Stock Inventory; Value: 270R; Size/Package: 2012 (0805); Component Type: RES-2012-270R; Category: Resistor; Status: Active
footprint ECE-RESC2012-0805SM
pins: 1, 2

## RES000532
designator R?, comment 330R  (value not drawn)
RES CER 330R 2012 SM; UoA Stock#: RES000532; Assembly Method: Surface Mount; Voltage/Current: 1/8W; Item Type: Item; Path: ece/ts/Lists/Stock Inventory; Value: 330R; Size/Package: 2012 (0805); Component Type: RES-2012-330R; Category: Resistor; Status: Active
footprint ECE-RESC2012-0805SM
pins: 1, 2

## RES000533
designator R?, comment 390R  (value not drawn)
RES CER 390R 2012 SM; UoA Stock#: RES000533; Assembly Method: Surface Mount; Voltage/Current: 1/8W; Item Type: Item; Path: ece/ts/Lists/Stock Inventory; Value: 390R; Size/Package: 2012 (0805); Component Type: RES-2012-390R; Category: Resistor; Status: Active
footprint ECE-RESC2012-0805SM
pins: 1, 2

## RES000534
designator R?, comment 470R  (value not drawn)
RES CER 470R 2012 SM; UoA Stock#: RES000534; Assembly Method: Surface Mount; Voltage/Current: 1/8W; Item Type: Item; Path: ece/ts/Lists/Stock Inventory; Value: 470R; Size/Package: 2012 (0805); Component Type: RES-2012-470R; Category: Resistor; Status: Active
footprint ECE-RESC2012-0805SM
pins: 1, 2

## RES000535
designator R?, comment 560R  (value not drawn)
RES CER 560R 2012 SM; UoA Stock#: RES000535; Assembly Method: Surface Mount; Voltage/Current: 1/8W; Item Type: Item; Path: ece/ts/Lists/Stock Inventory; Value: 560R; Size/Package: 2012 (0805); Component Type: RES-2012-560R; Category: Resistor; Status: Active
footprint ECE-RESC2012-0805SM
pins: 1, 2

## RES000536
designator R?, comment 680R  (value not drawn)
RES CER 680R 2012 SM; UoA Stock#: RES000536; Assembly Method: Surface Mount; Voltage/Current: 1/8W; Item Type: Item; Path: ece/ts/Lists/Stock Inventory; Value: 680R; Size/Package: 2012 (0805); Component Type: RES-2012-680R; Category: Resistor; Status: Active
footprint ECE-RESC2012-0805SM
pins: 1, 2

## RES000537
designator R?, comment 820R  (value not drawn)
RES CER 820R 2012 SM; UoA Stock#: RES000537; Assembly Method: Surface Mount; Voltage/Current: 1/8W; Item Type: Item; Path: ece/ts/Lists/Stock Inventory; Value: 820R; Size/Package: 2012 (0805); Component Type: RES-2012-820R; Category: Resistor; Status: Active
footprint ECE-RESC2012-0805SM
pins: 1, 2

## RES000538
designator R?, comment 1K  (value not drawn)
RES CER 1K 2012 SM; Manufactuer: Yageo; Manufacturer-PN: RC0805FR-071KL; UoA Stock#: RES000538; Assembly Method: Surface Mount; Voltage/Current: 1/8W; Item Type: Item; Path: ece/ts/Lists/Stock Inventory; Value: 1K; Size/Package: 2012 (0805); Datasheet Link: http://share.engineering.auckland.ac.nz/ece/ts/Student%20Documents/Yageo-Resistors.pdf; Supplier1: Digikey; Supplier1-PN: 311-1.00KCRTR-ND; Component Type: RES-2012-1K; Category: Resistor; Status: Active
footprint ECE-RESC2012-0805SM
pins: 1, 2

## RES000539
designator R?, comment 1k2  (value not drawn)
RES CER 1K2 2012 SM; UoA Stock#: RES000539; Assembly Method: Surface Mount; Voltage/Current: 1/8W; Item Type: Item; Path: ece/ts/Lists/Stock Inventory; Value: 1k2; Size/Package: 2012 (0805); Component Type: RES-2012-1K2; Category: Resistor; Status: Active
footprint ECE-RESC2012-0805SM
pins: 1, 2

## RES000540
designator R?, comment 1K5  (value not drawn)
RES CER 1K5 2012 SM; UoA Stock#: RES000540; Assembly Method: Surface Mount; Voltage/Current: 1/8W; Item Type: Item; Path: ece/ts/Lists/Stock Inventory; Value: 1K5; Size/Package: 2012 (0805); Component Type: RES-2012-1K5; Category: Resistor; Status: Active
footprint ECE-RESC2012-0805SM
pins: 1, 2

## RES000541
designator R?, comment 1K8  (value not drawn)
RES CER 1K8 2012 SM; UoA Stock#: RES000541; Assembly Method: Surface Mount; Voltage/Current: 1/8W; Item Type: Item; Path: ece/ts/Lists/Stock Inventory; Value: 1K8; Size/Package: 2012 (0805); Component Type: RES-2012-1K8; Category: Resistor; Status: Active
footprint ECE-RESC2012-0805SM
pins: 1, 2

## RES000542
designator R?, comment 2K2  (value not drawn)
RES CER 2K2 2012 SM; Manufactuer: Yageo; Manufacturer-PN: RC0805FR-072K2L; UoA Stock#: RES000542; Assembly Method: Surface Mount; Voltage/Current: 1/8W; Item Type: Item; Path: ece/ts/Lists/Stock Inventory; Value: 2K2; Size/Package: 2012 (0805); Datasheet Link: http://share.engineering.auckland.ac.nz/ece/ts/Student%20Documents/Yageo-Resistors.pdf; Supplier1: Digikey; Supplier1-PN: 311-2.20KCRTR-ND; Component Type: RES-2012-2K2; Category: Resistor; Status: Active
footprint ECE-RESC2012-0805SM
pins: 1, 2

## RES000543
designator R?, comment 2K7  (value not drawn)
RES CER 2K7 2012 SM; UoA Stock#: RES000543; Assembly Method: Surface Mount; Voltage/Current: 1/8W; Item Type: Item; Path: ece/ts/Lists/Stock Inventory; Value: 2K7; Size/Package: 2012 (0805); Component Type: RES-2012-2K7; Category: Resistor; Status: Active
footprint ECE-RESC2012-0805SM
pins: 1, 2

## RES000544
designator R?, comment 3K3  (value not drawn)
RES CER 3K3 2012 SM; UoA Stock#: RES000544; Assembly Method: Surface Mount; Voltage/Current: 1/8W; Item Type: Item; Path: ece/ts/Lists/Stock Inventory; Value: 3K3; Size/Package: 2012 (0805); Component Type: RES-2012-3K3; Category: Resistor; Status: Active
footprint ECE-RESC2012-0805SM
pins: 1, 2

## RES000545
designator R?, comment 3K9  (value not drawn)
RES CER 3K9 2012 SM; UoA Stock#: RES000545; Assembly Method: Surface Mount; Voltage/Current: 1/8W; Item Type: Item; Path: ece/ts/Lists/Stock Inventory; Value: 3K9; Size/Package: 2012 (0805); Component Type: RES-2012-3K9; Category: Resistor; Status: Active
footprint ECE-RESC2012-0805SM
pins: 1, 2

## RES000546
designator R?, comment 4K7  (value not drawn)
RES CER 4K7 2012 SM; UoA Stock#: RES000546; Assembly Method: Surface Mount; Voltage/Current: 1/8W; Item Type: Item; Path: ece/ts/Lists/Stock Inventory; Value: 4K7; Size/Package: 2012 (0805); Component Type: RES-2012-4K7; Category: Resistor; Status: Active
footprint ECE-RESC2012-0805SM
pins: 1, 2

## RES000547
designator R?, comment 5K6  (value not drawn)
RES CER 5K6 2012 SM; Manufactuer: Samsung; Manufacturer-PN: RC2012F562CS; UoA Stock#: RES000547; Assembly Method: Surface Mount; Voltage/Current: 1/8W; Item Type: Item; Path: ece/ts/Lists/Stock Inventory; Value: 5K6; Size/Package: 2012 (0805); Datasheet Link: http://share.engineering.auckland.ac.nz/ece/ts/Student%20Documents/Samsung-CHIP_RESISTOR_150112_1.pdf; Supplier1: Digikey; Supplier1-PN: 1276-5314-2-ND; Component Type: RES-2012-5K6; Category: Resistor; Status: Active
footprint ECE-RESC2012-0805SM
pins: 1, 2

## RES000548
designator R?, comment 6K8  (value not drawn)
RES CER 6K8 2012 SM; UoA Stock#: RES000548; Assembly Method: Surface Mount; Voltage/Current: 1/8W; Item Type: Item; Path: ece/ts/Lists/Stock Inventory; Value: 6K8; Size/Package: 2012 (0805); Component Type: RES-2012-6K8; Category: Resistor; Status: Active
footprint ECE-RESC2012-0805SM
pins: 1, 2

## RES000549
designator R?, comment 8K2  (value not drawn)
RES CER 8K2 2012 SM; UoA Stock#: RES000549; Assembly Method: Surface Mount; Voltage/Current: 1/8W; Item Type: Item; Path: ece/ts/Lists/Stock Inventory; Value: 8K2; Size/Package: 2012 (0805); Component Type: RES-2012-8K2; Category: Resistor; Status: Active
footprint ECE-RESC2012-0805SM
pins: 1, 2

## RES000550
designator R?, comment 10K  (value not drawn)
RES CER 10K 2012 SM; Manufactuer: Yageo; Manufacturer-PN: RC0805FR-0710KL; UoA Stock#: RES000550; Assembly Method: Surface Mount; Voltage/Current: 1/8W; Item Type: Item; Path: ece/ts/Lists/Stock Inventory; Value: 10K; Size/Package: 2012 (0805); Datasheet Link: http://share.engineering.auckland.ac.nz/ece/ts/Student%20Documents/Yageo-Resistors.pdf; Supplier1: Digikey; Supplier1-PN: 311-10.0KCRTR-ND; Component Type: RES-2012-10K; Category: Resistor; Status: Active
footprint ECE-RESC2012-0805SM
pins: 1, 2

## RES000551
designator R?, comment 12K  (value not drawn)
RES CER 12K 2012 SM; UoA Stock#: RES000551; Assembly Method: Surface Mount; Voltage/Current: 1/8W; Item Type: Item; Path: ece/ts/Lists/Stock Inventory; Value: 12K; Size/Package: 2012 (0805); Component Type: RES-2012-12K; Category: Resistor; Status: Active
footprint ECE-RESC2012-0805SM
pins: 1, 2

## RES000552
designator R?, comment 15K  (value not drawn)
RES CER 15K 2012 SM; UoA Stock#: RES000552; Assembly Method: Surface Mount; Voltage/Current: 1/8W; Item Type: Item; Path: ece/ts/Lists/Stock Inventory; Value: 15K; Size/Package: 2012 (0805); Component Type: RES-2012-15K; Category: Resistor; Status: Active
footprint ECE-RESC2012-0805SM
pins: 1, 2

## RES000553
designator R?, comment 18K  (value not drawn)
RES CER 18K 2012 SM; UoA Stock#: RES000553; Assembly Method: Surface Mount; Voltage/Current: 1/8W; Item Type: Item; Path: ece/ts/Lists/Stock Inventory; Value: 18K; Size/Package: 2012 (0805); Component Type: RES-2012-18K; Category: Resistor; Status: Active
footprint ECE-RESC2012-0805SM
pins: 1, 2

## RES000554
designator R?, comment 22K  (value not drawn)
RES CER 22K 2012 SM; Manufactuer: Yageo; Manufacturer-PN: RC0805FR-0722KL; UoA Stock#: RES000554; Assembly Method: Surface Mount; Voltage/Current: 1/8W; Item Type: Item; Path: ece/ts/Lists/Stock Inventory; Value: 22K; Size/Package: 2012 (0805); Datasheet Link: http://share.engineering.auckland.ac.nz/ece/ts/Student%20Documents/Yageo-Resistors.pdf; Supplier1: Digikey; Supplier1-PN: 311-22.0KCRTR-ND; Component Type: RES-2012-22K; Category: Resistor; Status: Active
footprint ECE-RESC2012-0805SM
pins: 1, 2

## RES000555
designator R?, comment 27K  (value not drawn)
RES CER 27K 2012 SM; Manufactuer: Yageo; Manufacturer-PN: RC0805FR-0727KL; UoA Stock#: RES000555; Assembly Method: Surface Mount; Voltage/Current: 1/8W; Item Type: Item; Path: ece/ts/Lists/Stock Inventory; Value: 27K; Size/Package: 2012 (0805); Datasheet Link: http://share.engineering.auckland.ac.nz/ece/ts/Student%20Documents/Yageo-Resistors.pdf; Supplier1: Digikey; Supplier1-PN: 311-27.0KCRTR-ND; Component Type: RES-2012-27K; Category: Resistor; Status: Active
footprint ECE-RESC2012-0805SM
pins: 1, 2

## RES000556
designator R?, comment 33K  (value not drawn)
RES CER 33K 2012 SM; UoA Stock#: RES000556; Assembly Method: Surface Mount; Voltage/Current: 1/8W; Item Type: Item; Path: ece/ts/Lists/Stock Inventory; Value: 33K; Size/Package: 2012 (0805); Component Type: RES-2012-33K; Category: Resistor; Status: Active
footprint ECE-RESC2012-0805SM
pins: 1, 2

## RES000557
designator R?, comment 39K  (value not drawn)
RES CER 39K 2012 SM; UoA Stock#: RES000557; Assembly Method: Surface Mount; Voltage/Current: 1/8W; Item Type: Item; Path: ece/ts/Lists/Stock Inventory; Value: 39K; Size/Package: 2012 (0805); Component Type: RES-2012-39K; Category: Resistor; Status: Active
footprint ECE-RESC2012-0805SM
pins: 1, 2

## RES000558
designator R?, comment 47K  (value not drawn)
RES CER 47K 2012 SM; UoA Stock#: RES000558; Assembly Method: Surface Mount; Voltage/Current: 1/8W; Item Type: Item; Path: ece/ts/Lists/Stock Inventory; Value: 47K; Size/Package: 2012 (0805); Component Type: RES-2012-47K; Category: Resistor; Status: Active
footprint ECE-RESC2012-0805SM
pins: 1, 2

## RES000559
designator R?, comment 56K  (value not drawn)
RES CER 56K 2012 SM; UoA Stock#: RES000559; Assembly Method: Surface Mount; Voltage/Current: 1/8W; Item Type: Item; Path: ece/ts/Lists/Stock Inventory; Value: 56K; Size/Package: 2012 (0805); Component Type: RES-2012-56K; Category: Resistor; Status: Active
footprint ECE-RESC2012-0805SM
pins: 1, 2

## RES000560
designator R?, comment 68K  (value not drawn)
RES CER 68K 2012 SM; UoA Stock#: RES000560; Assembly Method: Surface Mount; Voltage/Current: 1/8W; Item Type: Item; Path: ece/ts/Lists/Stock Inventory; Value: 68K; Size/Package: 2012 (0805); Component Type: RES-2012-68K; Category: Resistor; Status: Active
footprint ECE-RESC2012-0805SM
pins: 1, 2

## RES000561
designator R?, comment 82K  (value not drawn)
RES CER 82K 2012 SM; UoA Stock#: RES000561; Assembly Method: Surface Mount; Voltage/Current: 1/8W; Item Type: Item; Path: ece/ts/Lists/Stock Inventory; Value: 82K; Size/Package: 2012 (0805); Component Type: RES-2012-82K; Category: Resistor; Status: Active
footprint ECE-RESC2012-0805SM
pins: 1, 2

## RES000562
designator R?, comment 100K  (value not drawn)
RES CER 100K 2012 SM; Manufactuer: Yageo; Manufacturer-PN: RC0805FR-07100KL; UoA Stock#: RES000562; Assembly Method: Surface Mount; Voltage/Current: 1/8W; Item Type: Item; Path: ece/ts/Lists/Stock Inventory; Value: 100K; Size/Package: 2012 (0805); Datasheet Link: http://share.engineering.auckland.ac.nz/ece/ts/Student%20Documents/Yageo-Resistors.pdf; Supplier1: Digikey; Supplier1-PN: 311-100KCRTR-ND; Component Type: RES-2012-100K; Category: Resistor; Status: Active
footprint ECE-RESC2012-0805SM
pins: 1, 2

## RES000563
designator R?, comment 120K  (value not drawn)
RES CER 120K 2012 SM; UoA Stock#: RES000563; Assembly Method: Surface Mount; Voltage/Current: 1/8W; Item Type: Item; Path: ece/ts/Lists/Stock Inventory; Value: 120K; Size/Package: 2012 (0805); Component Type: RES-2012-120K; Category: Resistor; Status: Active
footprint ECE-RESC2012-0805SM
pins: 1, 2

## RES000564
designator R?, comment 150K  (value not drawn)
RES CER 150K 2012 SM; UoA Stock#: RES000564; Assembly Method: Surface Mount; Voltage/Current: 1/8W; Item Type: Item; Path: ece/ts/Lists/Stock Inventory; Value: 150K; Size/Package: 2012 (0805); Component Type: RES-2012-150K; Category: Resistor; Status: Active
footprint ECE-RESC2012-0805SM
pins: 1, 2